# EAGLE library part MR25H40 (library maholli)
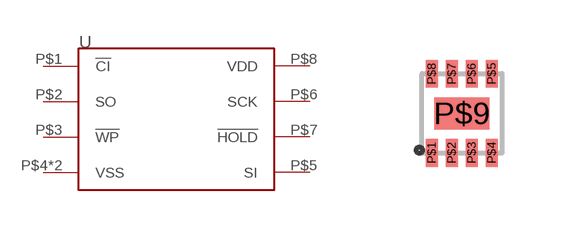
[diagram p20: symbol with the pads of DFN-8; footprint DFN-8]

Designator prefix U

## MR25H40  [DFN-8]
P$1  !CI
P$2  SO
P$3  !WP
P$4  VSS
P$5  SI
P$6  SCK
P$7  !HOLD
P$8  VDD
P$9  VSS

## Footprint DFN-8 (pad centres in mm)
Now follows http://pdfserv.maximintegrated.com/land_patterns/90-0065.PDF Pasted was reduced by 40% width on the center ground pad, and some amount on the other 8. Stop mask extends 135 µm wider than the pad to hit dead center of what IPC-7351 recommends.
smd 0.3 x 0.7: P$1 -0.75,-0.99; P$2 -0.25,-0.99; P$3 0.25,-0.99; P$4 0.75,-0.99; P$5 0.75,0.99; P$6 0.25,0.99; P$7 -0.25,0.99; P$8 -0.75,0.99
smd 1.38 x 0.8: P$9 0,0